# EAGLE library part MTA12 (library con-amp)
AMP connector
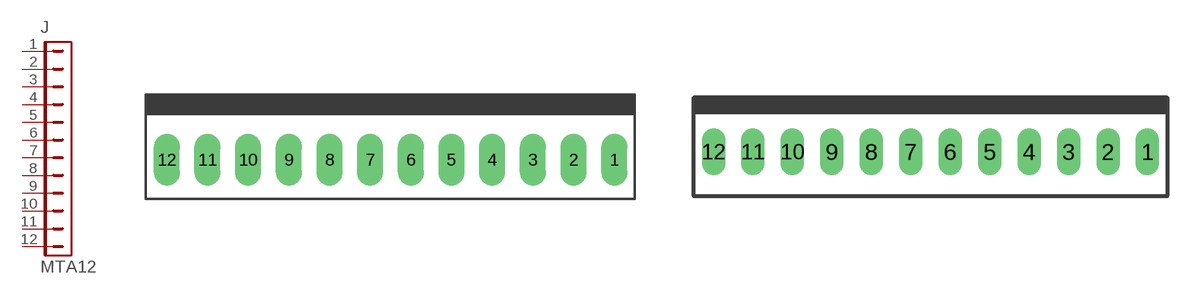
[diagram p117: symbol with the pads of MTA12-156; footprints MTA12-156, MTA12-100]

Designator prefix J

## MTA12-156  [MTA12-156]
1  1  pas
2  2  pas
3  3  pas
4  4  pas
5  5  pas
6  6  pas
7  7  pas
8  8  pas
9  9  pas
10  10  pas
11  11  pas
12  12  pas

## MTA12-100  [MTA12-100]
Pads as for MTA12-156

## Footprint MTA12-156 (pad centres in mm)
MTA Connector - 0.156" pitch
drill 1.676 long: 1 21.793,0; 2 17.831,0; 3 13.868,0; 4 9.906,0; 5 5.944,0; 6 1.981,0; 7 -1.981,0; 8 -5.944,0; 9 -9.906,0; 10 -13.868,0; 11 -17.831,0; 12 -21.793,0

## Footprint MTA12-100 (pad centres in mm)
MTA Connector - 0.100" pitch
drill 1.016 long: 1 13.97,0; 2 11.43,0; 3 8.89,0; 4 6.35,0; 5 3.81,0; 6 1.27,0; 7 -1.27,0; 8 -3.81,0; 9 -6.35,0; 10 -8.89,0; 11 -11.43,0; 12 -13.97,0